# Altium schematic symbol library SD_smd.SchLib: 1 symbol
Pins are listed as number, name and electrical type; pins without a type are passive.

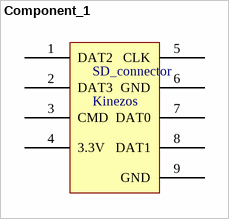
[diagram p0: symbol Component_1]

## Component_1
designator SD_connector, comment Kinezos
SD smd connector
footprint PCBComponent_1
pins: 1 DAT2, 2 DAT3, 3 CMD, 4 3.3V, 5 CLK, 6 GND, 7 DAT0, 8 DAT1, 9 GND